# Altium schematic symbol library Schlib1.SchLib: 2 symbols
Pins are listed as number, name and electrical type; pins without a type are passive.

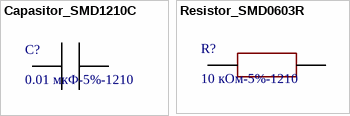
[diagram p0: symbols Capasitor_SMD1210C to Resistor_SMD0603R]

## Capasitor_SMD1210C
designator C?, comment 0.01 мкФ-5%-1210
Manufacturer: *; Href: *; PartNumber: *
pins: 0, 1

## Resistor_SMD0603R
designator R?, comment 10 кОм-5%-1210
Manufacturer: *; Href: *; PartNumber: *
pins: 0, 1